# EAGLE library part J_MOLEX_502386 (library devon)
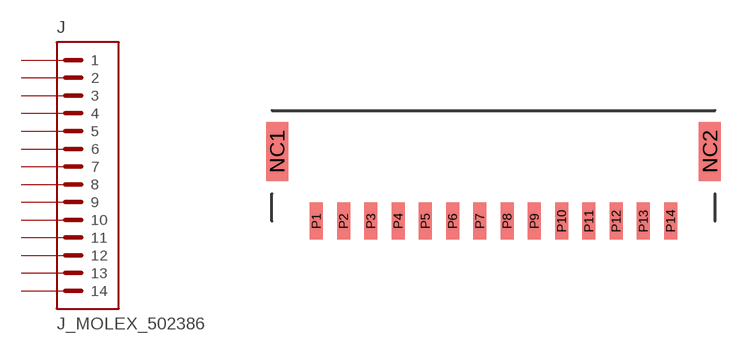
[diagram p8: symbol with the pads of MOLEX_502386; footprint MOLEX_502386]

Designator prefix J

## J_MOLEX_502386  [MOLEX_502386]
P1  1
P2  2
P3  3
P4  4
P5  5
P6  6
P7  7
P8  8
P9  9
P10  10
P11  11
P12  12
P13  13
P14  14

## Footprint MOLEX_502386 (pad centres in mm)
smd 1 x 2.7: NC1 -9.925,3.2; NC2 9.925,3.2
smd 0.6 x 1.7: P1 -8.125,0; P2 -6.875,0; P3 -5.625,0; P4 -4.375,0; P5 -3.125,0; P6 -1.875,0; P7 -0.625,0; P8 0.625,0; P9 1.875,0; P10 3.125,0; P11 4.375,0; P12 5.625,0; P13 6.875,0; P14 8.125,0